# Altium footprint library transistors.PcbLib: 3 footprints
Each footprint in its own frame and in the unit in brackets; x right, y up, seen from the top. Pads: shape width x height; smd on the part's side, far side on the other; paste and mask are expansions set on the pad; w line width, h text height; cw(c..) or ccw(c..) is an arc to the next point about the centre after c.
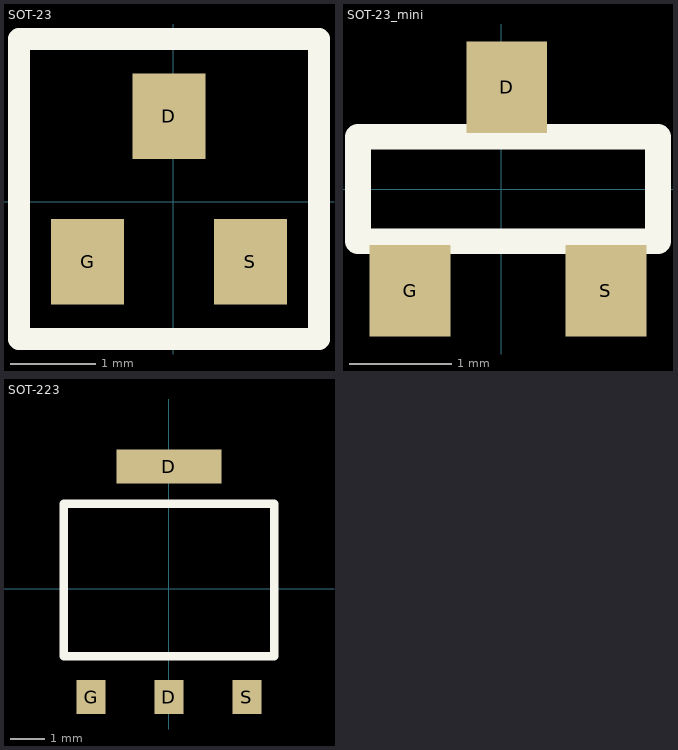
[diagram p0: the footprints below, top view; thin cyan lines are the x and y axes]

## SOT-23 [mm] "IRLML6344"
height 1
pads (3):
  rect 0.85x1 smd: D(-0.05,1) G(-1,-0.7) S(0.9,-0.7)
Top Overlay:
  lines w0.254: -1.8,-1.6 -1.8,1.9 -1.5,1.9 1.7,1.9 1.7,-1.6 -1.8,-1.6

## SOT-23_mini [mil] "IRLML6344"
height 39.37
pads (3):
  rect 31x35 smd: D(2,39) G(-35,-39) S(40,-39)
Top Overlay:
  lines w9.8: -55,-20 60,-20 60,20 -55,20 -55,-20

## SOT-223 [mm] "SOT-223 Transistor"
pads (4):
  rect 0.85x1 smd: D(0,-3.2) G(-2.3,-3.2) S(2.3,-3.2)
  rect 3.1x1 smd: D(0,3.6)
Top Overlay:
  lines w0.254: -3.1,-2 3.1,-2 3.1,2.5 -3.1,2.5 -3.1,-2